# EAGLE library part PIC32MX570F512H (library GreenFuel)
PIC32MX570F512H - 32-bit Microcontrollers (up to 512 KB Flash and 64 KB SRAM) with Audio/Graphics/Touch (HMI), CAN, USB, and Advanced Analog Specification : Type : TQFP Manufacture : Microchip Manufacture PN: PIC32MX570F512H-I/PT Certifications: ISO/TS-16949:2009 Operating Temperature Range: 2.3V to 3.6V Body Size: 10.00mm x 10.00mm Supporting Material PIC32MX570F512H Datasheet <http://ww1.microchip.com/downloads/en/DeviceDoc/60001290E.pdf>
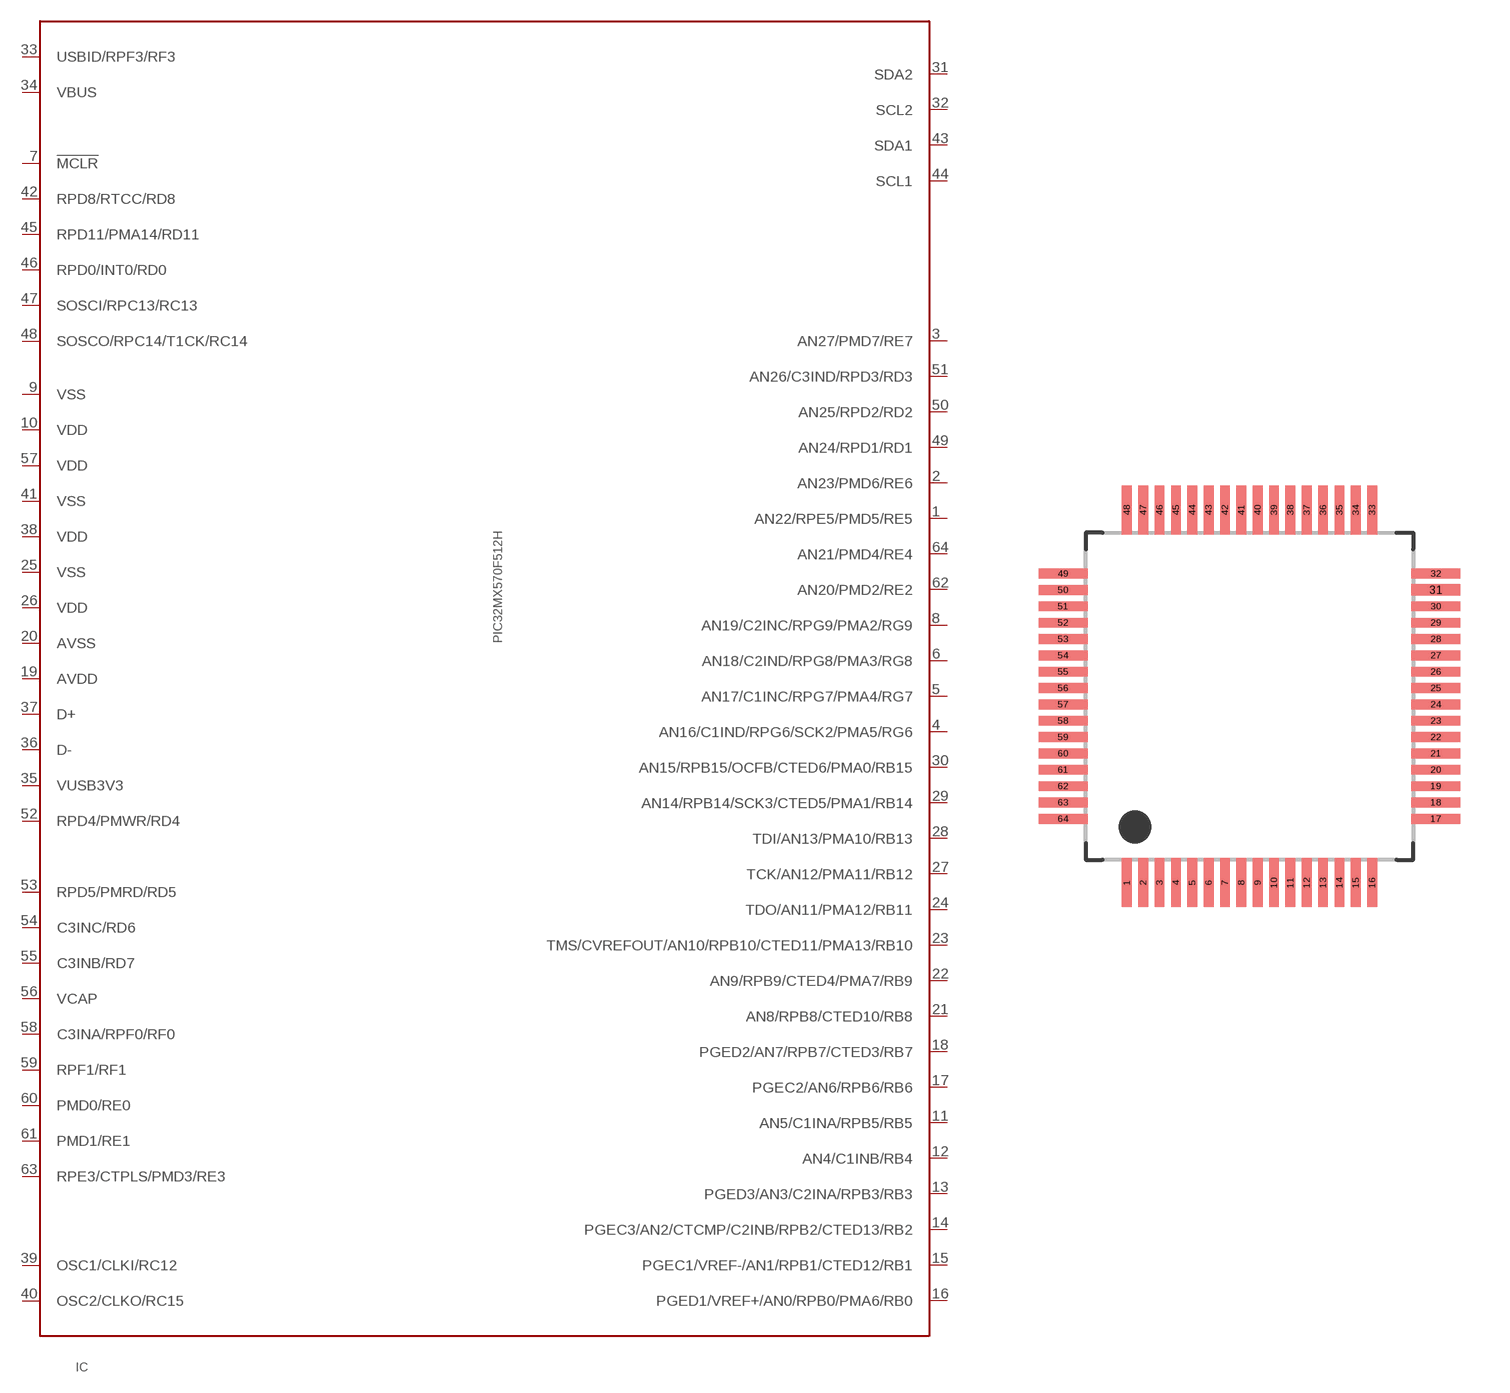
[diagram p0: symbol with the pads of TQFP-64; footprint TQFP-64]

Designator prefix IC

## PIC32MX570F512HI/PT  [TQFP-64]
1  AN22/RPE5/PMD5/RE5  in
2  AN23/PMD6/RE6  in
3  AN27/PMD7/RE7  in
4  AN16/C1IND/RPG6/SCK2/PMA5/RG6  in
5  AN17/C1INC/RPG7/PMA4/RG7  in
6  AN18/C2IND/RPG8/PMA3/RG8  in
7  !MCLR  in
8  AN19/C2INC/RPG9/PMA2/RG9  in
9  VSS  pwr
10  VDD  pwr
11  AN5/C1INA/RPB5/RB5  in
12  AN4/C1INB/RB4  in
13  PGED3/AN3/C2INA/RPB3/RB3  in
14  PGEC3/AN2/CTCMP/C2INB/RPB2/CTED13/RB2  in
15  PGEC1/VREF-/AN1/RPB1/CTED12/RB1  in
16  PGED1/VREF+/AN0/RPB0/PMA6/RB0  in
17  PGEC2/AN6/RPB6/RB6  in
18  PGED2/AN7/RPB7/CTED3/RB7  in
19  AVDD  pwr
20  AVSS  pwr
21  AN8/RPB8/CTED10/RB8  in
22  AN9/RPB9/CTED4/PMA7/RB9  in
23  TMS/CVREFOUT/AN10/RPB10/CTED11/PMA13/RB10  in
24  TDO/AN11/PMA12/RB11  in
25  VSS  pwr
26  VDD  pwr
27  TCK/AN12/PMA11/RB12  in
28  TDI/AN13/PMA10/RB13  in
29  AN14/RPB14/SCK3/CTED5/PMA1/RB14  in
30  AN15/RPB15/OCFB/CTED6/PMA0/RB15  in
31  SDA2
32  SCL2
33  USBID/RPF3/RF3  in
34  VBUS  in
35  VUSB3V3  pwr
36  D-
37  D+
38  VDD  pwr
39  OSC1/CLKI/RC12  in
40  OSC2/CLKO/RC15  out
41  VSS  pwr
42  RPD8/RTCC/RD8  out
43  SDA1
44  SCL1
45  RPD11/PMA14/RD11  out
46  RPD0/INT0/RD0  in
47  SOSCI/RPC13/RC13  in
48  SOSCO/RPC14/T1CK/RC14  out
49  AN24/RPD1/RD1  in
50  AN25/RPD2/RD2  in
51  AN26/C3IND/RPD3/RD3  in
52  RPD4/PMWR/RD4  out
53  RPD5/PMRD/RD5  out
54  C3INC/RD6  in
55  C3INB/RD7  in
56  VCAP  pwr
57  VDD  pwr
58  C3INA/RPF0/RF0  in
59  RPF1/RF1
60  PMD0/RE0
61  PMD1/RE1
62  AN20/PMD2/RE2  in
63  RPE3/CTPLS/PMD3/RE3
64  AN21/PMD4/RE4  in

## Footprint TQFP-64 (pad centres in mm)
64-Lead plastic Thin quad Flat pack (PT) - 10x10x1mm Body, 2.00mm [TQFP]
smd 0.3 x 1.5: 1 -3.75,-5.7; 2 -3.25,-5.7; 3 -2.75,-5.7; 4 -2.25,-5.7; 5 -1.75,-5.7; 6 -1.25,-5.7; 7 -0.75,-5.7; 8 -0.25,-5.7; 9 0.25,-5.7; 10 0.75,-5.7; 11 1.25,-5.7; 12 1.75,-5.7; 13 2.25,-5.7; 14 2.75,-5.7; 15 3.25,-5.7; 16 3.75,-5.7; 33 3.75,5.7; 34 3.25,5.7; 35 2.75,5.7; 36 2.25,5.7; 37 1.75,5.7; 38 1.25,5.7; 39 0.75,5.7; 40 0.25,5.7; 41 -0.25,5.7; 42 -0.75,5.7; 43 -1.25,5.7; 44 -1.75,5.7; 45 -2.25,5.7; 46 -2.75,5.7; 47 -3.25,5.7; 48 -3.75,5.7
smd 1.5 x 0.3: 17 5.7,-3.75; 18 5.7,-3.25; 19 5.7,-2.75; 20 5.7,-2.25; 21 5.7,-1.75; 22 5.7,-1.25; 23 5.7,-0.75; 24 5.7,-0.25; 25 5.7,0.25; 26 5.7,0.75; 27 5.7,1.25; 28 5.7,1.75; 29 5.7,2.25; 30 5.7,2.75; 32 5.7,3.75; 49 -5.7,3.75; 50 -5.7,3.25; 51 -5.7,2.75; 52 -5.7,2.25; 53 -5.7,1.75; 54 -5.7,1.25; 55 -5.7,0.75; 56 -5.7,0.25; 57 -5.7,-0.25; 58 -5.7,-0.75; 59 -5.7,-1.25; 60 -5.7,-1.75; 61 -5.7,-2.25; 62 -5.7,-2.75; 63 -5.7,-3.25; 64 -5.7,-3.75
smd 1.5 x 0.35: 31 5.7,3.25